# EAGLE library part SN65HVD230QDR (library HEXABITZ_ICs)
Automotive Catalog 3.3-V CAN Transceivers 8-SOIC -40 to 125
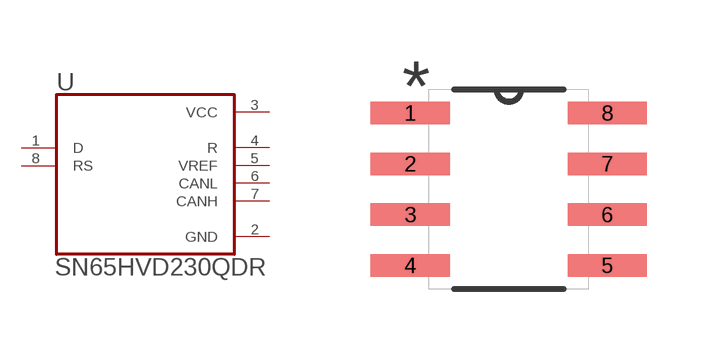
[diagram p19: symbol with the pads of SOIC127P600X175-8N; footprint SOIC127P600X175-8N]

Designator prefix U

## SN65HVD230QDR (AVAILABILITY: Unavailable; DESCRIPTION: 1/1 Transceiver Half CANbus 8-SOIC; MFN: Texas Instruments; MPN: SN65HVD230QDR; OCTOPART_URL: https://octopart.com/sn65hvd230qdr-texas+instruments-712415?r=sp; PACKAGE: SOIC-8 Texas Instruments)  [SOIC127P600X175-8N]
1  D  in
2  GND  pwr
3  VCC  pwr
4  R  out
5  VREF  out
6  CANL  out
7  CANH  out
8  RS  in

## Footprint SOIC127P600X175-8N (pad centres in mm)
smd 1.981 x 0.559: 1 -2.464,1.905; 2 -2.464,0.635; 3 -2.464,-0.635; 4 -2.464,-1.905; 5 2.464,-1.905; 6 2.464,-0.635; 7 2.464,0.635; 8 2.464,1.905